# Altium schematic symbol library Antennas.SchLib: 1 symbol
Pins are listed as number, name and electrical type; pins without a type are passive.

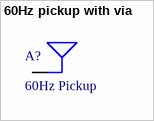
[diagram p0: symbol 60Hz pickup with via]

## 60Hz pickup with via
designator A?, comment 60Hz Pickup
5cm 60Hz pickup antenna with via for external wire
footprint 60HzPickup (This is a small straight trace antenna with an avaliable via for external pickup)
pins: 1 Ant